# Altium footprint library sensor.PcbLib: 3 footprints
Each footprint in its own frame and in the unit in brackets; x right, y up, seen from the top. Pads: shape width x height; smd on the part's side, far side on the other; paste and mask are expansions set on the pad; w line width, h text height; cw(c..) or ccw(c..) is an arc to the next point about the centre after c.
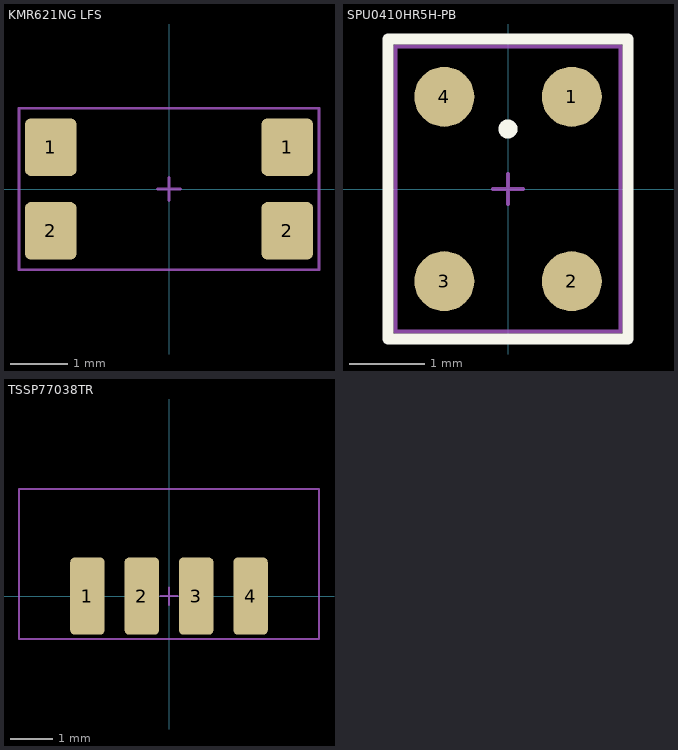
[diagram p0: the footprints below, top view; thin cyan lines are the x and y axes]

## KMR621NG LFS [mm]
pads (4):
  rrect25% 0.9x1 smd: 1(-2.05,0.725) 1(2.05,0.725) 2(-2.05,-0.725) 2(2.05,-0.725)
Top Assembly:
  lines w0.05: -2.6,-1.4 -2.6,1.4 2.6,1.4 2.6,-1.4 -2.6,-1.4
Top Placement:
  lines w0.05: -0.2,0 0.2,0 ; 0,-0.2 0,0.2 ; -2.6,-1.4 -2.6,1.4 2.6,1.4 2.6,-1.4 -2.6,-1.4
3D body "KMR621NG LFS--3DModel-STEP-56544.STEP": height 1.9, standoff 0, extent -2.3,-1.4 2.3,1.4

## SPU0410HR5H-PB [mm]
pads (4):
  round 0.8 smd: 1(0.85,1.23) 2(0.85,-1.23) 3(-0.85,-1.23) 4(-0.85,1.23)
Top Overlay:
  circle w0.153: c0,0.8 r0.05
  lines w0.153: -1.6,-2 -1.6,2 1.6,2 1.6,-2 -1.6,-2
Top Assembly:
  lines w0.05: -1.5,-1.9 1.5,-1.9 1.5,1.9 -1.5,1.9 -1.5,-1.9
Top Placement:
  lines w0.05: -0.2,0 0.2,0 ; 0,-0.2 0,0.2 ; -1.5,-1.9 -1.5,1.9 1.5,1.9 1.5,-1.9 -1.5,-1.9
3D body "User Library-WM7121PE.step": height 1.1, standoff 0, extent -1.475,-1.88 1.475,1.88

## TSSP77038TR [mm]
pads (4):
  rrect25% 0.8x1.8 smd: 1(-1.905,0) 2(-0.635,0) 3(0.635,0) 4(1.905,0)
Top Assembly:
  lines w0.05: -3.5,-1 3.5,-1 3.5,2.5 -3.5,2.5 -3.5,-1
Top Placement:
  lines w0.05: -0.2,0 0.2,0 ; 0,-0.2 0,0.2 ; -3.5,-1 -3.5,2.5 3.5,2.5 3.5,-1 -3.5,-1
3D body "82672Heimdall.stp": height 3.21, standoff 0.01, extent -3.455,-0.65 3.445,2.45